# Altium footprint library SHT31-DIS-B.PcbLib: 3 footprints
Each footprint in its own frame and in the unit in brackets; x right, y up, seen from the top. Pads: shape width x height; smd on the part's side, far side on the other; paste and mask are expansions set on the pad; w line width, h text height; cw(c..) or ccw(c..) is an arc to the next point about the centre after c.
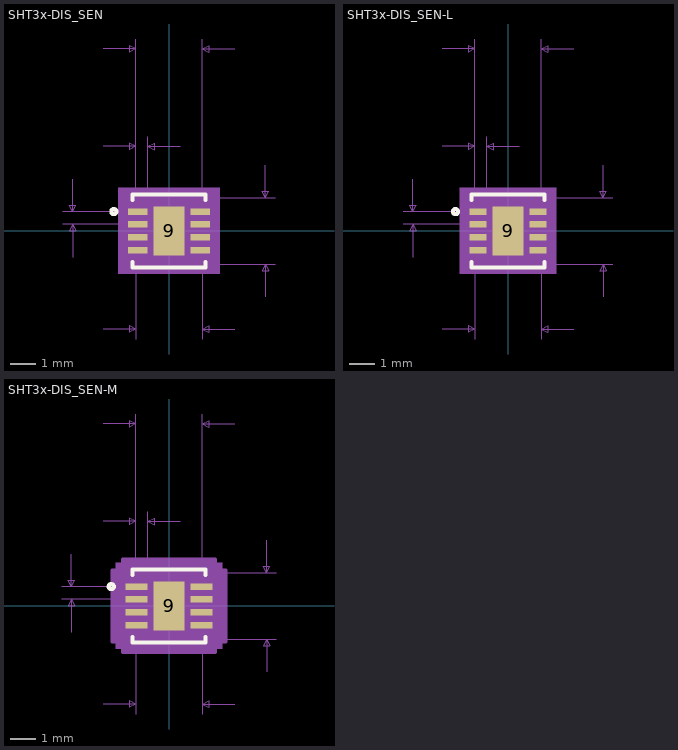
[diagram p0: the footprints below, top view; thin cyan lines are the x and y axes]

## SHT3x-DIS_SEN [mil]
pads (9):
  rect 30x10 smd paste+0 mask+0: 1(-48,29.53) 2(-48,9.84) 3(-48,-9.84) 4(-48,-29.53) 5(48,-29.53) 6(48,-9.84) 7(48,9.84) 8(48,29.53)
  rect 47x75 smd paste+0 mask+0: 9(0,0)
Top Overlay:
  circle w6: c-84.69,29.53 r4
  lines w6: -56,-47.63 -56,-56 56,-56 56,-47.63 ; -56,47.63 -56,56 56,56 56,47.63
Mechanical 5:
  region: 78,-66 -78,-66 -78,66 78,66
Mechanical 7:
  lines w1: -163,9.84 -48,9.84 ; -163,29.53 -48,29.53 ; -148,-40.16 -148,9.84 ; -148,79.53 -148,29.53 ; -101,-151 -51,-151 ; -101,129.53 -51,129.53 ; -101,279.53 -51,279.53 ; -51,-166 -51,-51 ; -51,144.53 -51,29.53 -51,294.53 ; -33,29.53 -33,144.53 ; 17,129.53 -33,129.53 ; 51,-166 51,-51 163,-51 ; 51,29.53 51,294.53 ; 51,51 163,51 ; 101,-151 51,-151 ; 101,279.53 51,279.53 ; 148,-101 148,-51 ; 148,101 148,51 ; -148,9.84 -153,-0.16 -143,-0.16 -148,9.84 ; -148,29.53 -153,39.53 -143,39.53 -148,29.53 ; -51,-151 -61,-146 -61,-156 -51,-151 ; -51,129.53 -61,134.53 -61,124.53 -51,129.53 ; -51,279.53 -61,284.53 -61,274.53 -51,279.53 ; -33,129.53 -23,134.53 -23,124.53 -33,129.53 ; 51,-151 61,-146 61,-156 51,-151 ; 51,279.53 61,284.53 61,274.53 51,279.53 ; 148,-51 143,-61 153,-61 148,-51 ; 148,51 143,61 153,61 148,51
  text "Default Padstyle: RX30Y10D0T" at -350,-421 h50
  text "Heat Tab Padstyle: RX47Y75D0T" at -362.5,-481 h50
  text "Alt 1 Padstyle: OX60Y90D30P" at -337.5,-601 h50
  text "Alt 2 Padstyle: OX90Y60D30P" at -337.5,-661 h50
  text "0.102in/2.591mm" at -93.75,299.53 h25
  text "0.018in/0.457mm" at -135.75,149.53 h25
  text "0.02in/0.5mm" at -318,7.18 h25
  text "0.102in/2.591mm" at 168,-12.5 h25
  text "0.102in/2.591mm" at -93.75,-196 h25
Mechanical 13:
  circle w0: c-33,29.53 r3
  lines w0: -12,51 ccw(c0,51) 12,51
  lines w1: -51,-51 51,-51 51,51 -51,51 -51,-51
Mechanical 15:
  region: -61,-44.53 -73,-44.53 -73,44.53 -61,44.53 -61,61 61,61 61,44.53 73,44.53 73,-44.53 61,-44.53 61,-61 -61,-61
  lines w6: -73,-44.53 -73,44.53 -61,44.53 -61,61 61,61 61,44.53 73,44.53 73,-44.53 61,-44.53 61,-61 -61,-61 -61,-44.53 -73,-44.53
3D body: height 10, standoff 0, extent 0,0 10,10

## SHT3x-DIS_SEN-L [mil]
pads (9):
  rect 26x10 smd paste+0 mask+0: 1(-46,29.53) 2(-46,9.84) 3(-46,-9.84) 4(-46,-29.53) 5(46,-29.53) 6(46,-9.84) 7(46,9.84) 8(46,29.53)
  rect 47x75 smd paste+0 mask+0: 9(0,0)
Top Overlay:
  circle w6: c-80.69,29.53 r4
  lines w6: -56,-47.63 -56,-56 56,-56 56,-47.63 ; -56,47.63 -56,56 56,56 56,47.63
Mechanical 5:
  region: 74,-66 -74,-66 -74,66 74,66
Mechanical 7:
  lines w1: -161,9.84 -46,9.84 ; -161,29.53 -46,29.53 ; -146,-40.16 -146,9.84 ; -146,79.53 -146,29.53 ; -101,-151 -51,-151 ; -101,129.53 -51,129.53 ; -101,279.53 -51,279.53 ; -51,-166 -51,-51 ; -51,144.53 -51,29.53 -51,294.53 ; -33,29.53 -33,144.53 ; 17,129.53 -33,129.53 ; 51,-166 51,-51 161,-51 ; 51,29.53 51,294.53 ; 51,51 161,51 ; 101,-151 51,-151 ; 101,279.53 51,279.53 ; 146,-101 146,-51 ; 146,101 146,51 ; -146,9.84 -151,-0.16 -141,-0.16 -146,9.84 ; -146,29.53 -151,39.53 -141,39.53 -146,29.53 ; -51,-151 -61,-146 -61,-156 -51,-151 ; -51,129.53 -61,134.53 -61,124.53 -51,129.53 ; -51,279.53 -61,284.53 -61,274.53 -51,279.53 ; -33,129.53 -23,134.53 -23,124.53 -33,129.53 ; 51,-151 61,-146 61,-156 51,-151 ; 51,279.53 61,284.53 61,274.53 51,279.53 ; 146,-51 141,-61 151,-61 146,-51 ; 146,51 141,61 151,61 146,51
  text "Default Padstyle: RX26Y10D0T" at -350,-421 h50
  text "Heat Tab Padstyle: RX47Y75D0T" at -362.5,-481 h50
  text "Alt 1 Padstyle: OX60Y90D30P" at -337.5,-601 h50
  text "Alt 2 Padstyle: OX90Y60D30P" at -337.5,-661 h50
  text "0.102in/2.591mm" at -93.75,299.53 h25
  text "0.018in/0.457mm" at -135.75,149.53 h25
  text "0.02in/0.5mm" at -316,7.18 h25
  text "0.102in/2.591mm" at 166,-12.5 h25
  text "0.102in/2.591mm" at -93.75,-196 h25
Mechanical 13:
  circle w0: c-33,29.53 r3
  lines w0: -12,51 ccw(c0,51) 12,51
  lines w1: -51,-51 51,-51 51,51 -51,51 -51,-51
Mechanical 15:
  region: -55,-38.53 -63,-38.53 -63,38.53 -55,38.53 -55,55 55,55 55,38.53 63,38.53 63,-38.53 55,-38.53 55,-55 -55,-55
  lines w6: -63,-38.53 -63,38.53 -55,38.53 -55,55 55,55 55,38.53 63,38.53 63,-38.53 55,-38.53 55,-55 -55,-55 -55,-38.53 -63,-38.53
3D body: height 10, standoff 0, extent 0,0 10,10

## SHT3x-DIS_SEN-M [mil]
pads (9):
  rect 34x10 smd paste+0 mask+0: 1(-50,29.53) 2(-50,9.84) 3(-50,-9.84) 4(-50,-29.53) 5(50,-29.53) 6(50,-9.84) 7(50,9.84) 8(50,29.53)
  rect 47x75 smd paste+0 mask+0: 9(0,0)
Top Overlay:
  circle w6: c-88.69,29.53 r4
  lines w6: -56,-47.63 -56,-56 56,-56 56,-47.63 ; -56,47.63 -56,56 56,56 56,47.63
Mechanical 5:
  region: 82,-66 -82,-66 -82,66 82,66
Mechanical 7:
  lines w1: -165,9.84 -50,9.84 ; -165,29.53 -50,29.53 ; -150,-40.16 -150,9.84 ; -150,79.53 -150,29.53 ; -101,-151 -51,-151 ; -101,129.53 -51,129.53 ; -101,279.53 -51,279.53 ; -51,-166 -51,-51 ; -51,144.53 -51,29.53 -51,294.53 ; -33,29.53 -33,144.53 ; 17,129.53 -33,129.53 ; 51,-166 51,-51 165,-51 ; 51,29.53 51,294.53 ; 51,51 165,51 ; 101,-151 51,-151 ; 101,279.53 51,279.53 ; 150,-101 150,-51 ; 150,101 150,51 ; -150,9.84 -155,-0.16 -145,-0.16 -150,9.84 ; -150,29.53 -155,39.53 -145,39.53 -150,29.53 ; -51,-151 -61,-146 -61,-156 -51,-151 ; -51,129.53 -61,134.53 -61,124.53 -51,129.53 ; -51,279.53 -61,284.53 -61,274.53 -51,279.53 ; -33,129.53 -23,134.53 -23,124.53 -33,129.53 ; 51,-151 61,-146 61,-156 51,-151 ; 51,279.53 61,284.53 61,274.53 51,279.53 ; 150,-51 145,-61 155,-61 150,-51 ; 150,51 145,61 155,61 150,51
  text "Default Padstyle: RX34Y10D0T" at -350,-421 h50
  text "Heat Tab Padstyle: RX47Y75D0T" at -362.5,-481 h50
  text "Alt 1 Padstyle: OX60Y90D30P" at -337.5,-601 h50
  text "Alt 2 Padstyle: OX90Y60D30P" at -337.5,-661 h50
  text "0.102in/2.591mm" at -93.75,299.53 h25
  text "0.018in/0.457mm" at -135.75,149.53 h25
  text "0.02in/0.5mm" at -320,7.18 h25
  text "0.102in/2.591mm" at 170,-12.5 h25
  text "0.102in/2.591mm" at -93.75,-196 h25
Mechanical 13:
  circle w0: c-33,29.53 r3
  lines w0: -12,51 ccw(c0,51) 12,51
  lines w1: -51,-51 51,-51 51,51 -51,51 -51,-51
Mechanical 15:
  region: -71,-54.53 -87,-54.53 -87,54.53 -71,54.53 -71,71 71,71 71,54.53 87,54.53 87,-54.53 71,-54.53 71,-71 -71,-71
  lines w6: -87,-54.53 -87,54.53 -71,54.53 -71,71 71,71 71,54.53 87,54.53 87,-54.53 71,-54.53 71,-71 -71,-71 -71,-54.53 -87,-54.53
3D body: height 10, standoff 0, extent 0,0 10,10